# Altium schematic symbol library radio.SchLib: 3 symbols
Pins are listed as number, name and electrical type; pins without a type are passive.

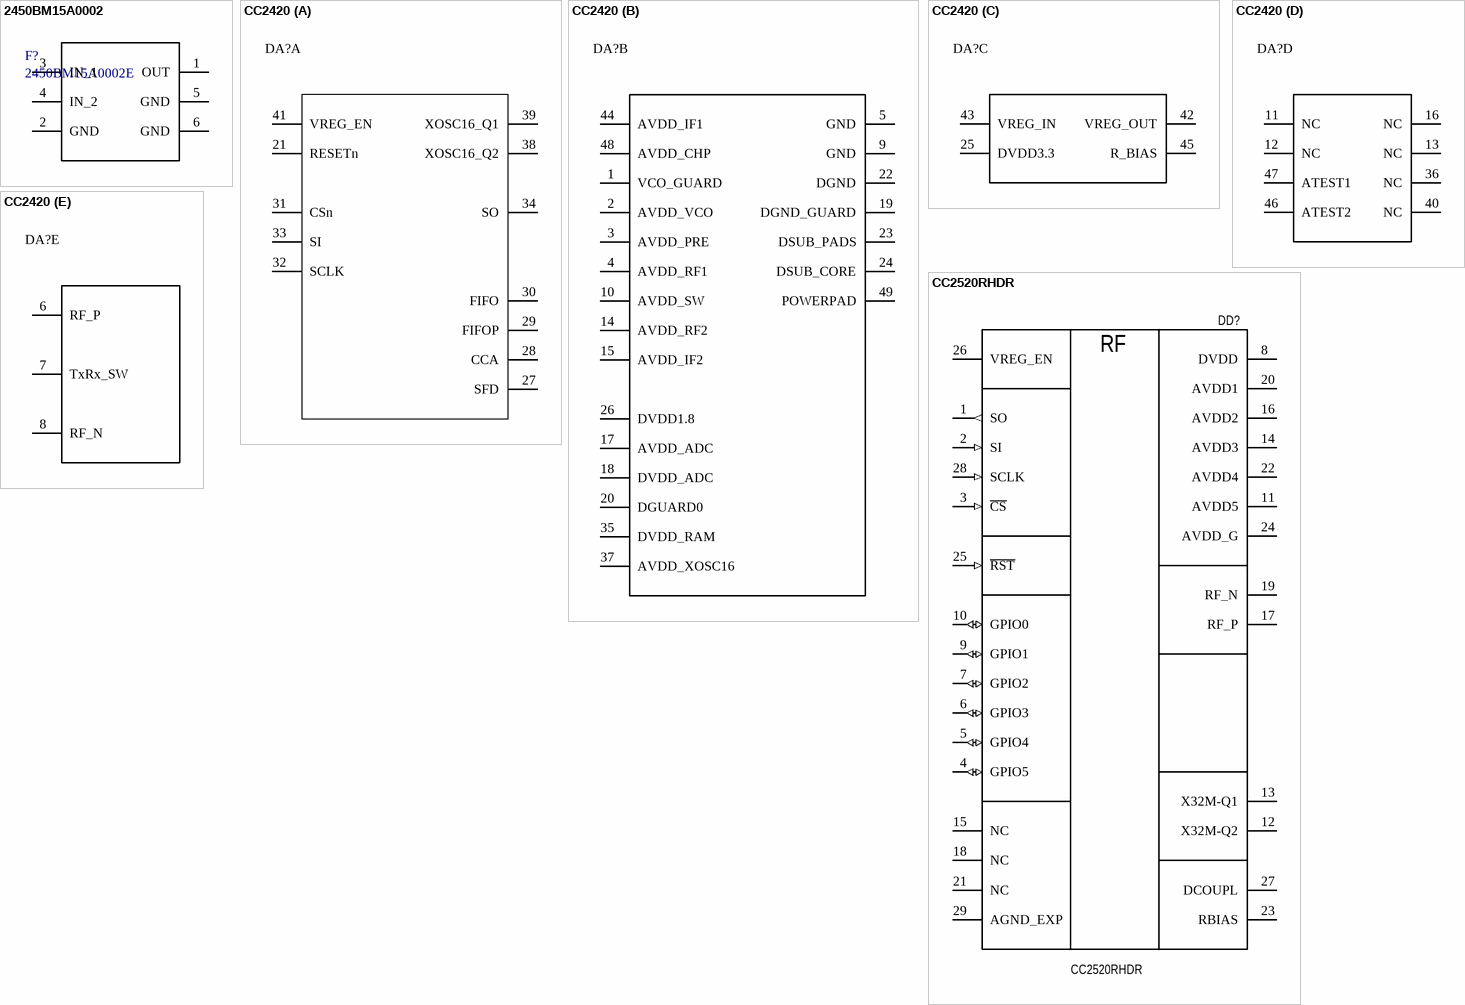
[diagram p0: symbols 2450BM15A0002 to CC2520RHDR]

## 2450BM15A0002
designator F?, comment 2450BM15A0002E
Balun filter for CC253x, CC254x, CC257X; PartNumber: 2450BM15A0002; Supplier: Terraelectronica; Unit Price: 31,20; WebLink: https://www.terraelectronica.ru/product/850116
footprint 2450BM15B0002
pins: 1 OUT, 2 GND, 3 IN_1, 4 IN_2, 5 GND, 6 GND

## CC2420
designator DA?
2.4 GHz transiver; PartNumber: CC2420RGZR; Supplier: Terraelectronica; Unit Price: 439; WebLink: https://www.terraelectronica.ru/catalog/integralnye-mikroshemy-dlya-radiosvyazi-274?text=cc2420&search=cc2420
footprint QLP-48 (LQFP-48, 48-Leads, Body 7,00x7,00mm, Pitch 0,50mm)
part A pins: 21 RESETn, 27 SFD, 28 CCA, 29 FIFOP, 30 FIFO, 31 CSn, 32 SCLK, 33 SI, 34 SO, 38 XOSC16_Q2, 39 XOSC16_Q1, 41 VREG_EN
part B pins: 1 VCO_GUARD, 2 AVDD_VCO, 3 AVDD_PRE, 4 AVDD_RF1, 5 GND, 9 GND, 10 AVDD_SW, 14 AVDD_RF2, 15 AVDD_IF2, 17 AVDD_ADC, 18 DVDD_ADC, 19 DGND_GUARD, 20 DGUARD0, 22 DGND, 23 DSUB_PADS, 24 DSUB_CORE, 26 DVDD1.8, 35 DVDD_RAM, 37 AVDD_XOSC16, 44 AVDD_IF1, 48 AVDD_CHP, 49 POWERPAD
part C pins: 25 DVDD3.3, 42 VREG_OUT, 43 VREG_IN, 45 R_BIAS
part D pins: 11 NC, 12 NC, 13 NC, 16 NC, 36 NC, 40 NC, 46 ATEST2, 47 ATEST1
part E pins: 6 RF_P, 7 TxRx_SW, 8 RF_N

## CC2520RHDR
designator DD?
footprint QFN28 (pitch 0.5 5x5mm)
pins: 1 SO (out), 2 SI (in), 3 ~{CS} (in), 4 GPIO5 (io), 5 GPIO4 (io), 6 GPIO3 (io), 7 GPIO2 (io), 8 DVDD (power), 9 GPIO1 (io), 10 GPIO0 (io), 11 AVDD5 (power), 12 X32M-Q2, 13 X32M-Q1, 14 AVDD3 (power), 15 NC, 16 AVDD2 (power), 17 RF_P, 18 NC, 19 RF_N, 20 AVDD1 (power), 21 NC, 22 AVDD4 (power), 23 RBIAS, 24 AVDD_G (power), 25 ~{RST} (in), 26 VREG_EN, 27 DCOUPL, 28 SCLK (in), 29 AGND_EXP (power)
text: RF